# Altium schematic symbol library Switch-keyboard.SchLib: 6 symbols
Pins are listed as number, name and electrical type; pins without a type are passive.

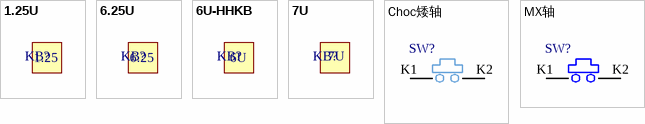
[diagram p0: symbols 1.25U to MX轴]

## 1.25U
designator KB?  (no BOM)
text: 1.25

## 6.25U
designator KB?  (no BOM)
text: 6.25

## 6U-HHKB
designator KB?  (no BOM)
text: 6U

## 7U
designator KB?  (no BOM)

## Choc矮轴
designator SW?
pins: K1 K, K2 K

## MX轴
designator SW?
pins: K1 K, K2 K